# Altium footprint library WS-TASV.PcbLib: 101 footprints (part 3 of 7)
Each footprint in its own frame and in the unit in brackets; x right, y up, seen from the top. Pads: shape width x height; smd on the part's side, far side on the other; paste and mask are expansions set on the pad; w line width, h text height; cw(c..) or ccw(c..) is an arc to the next point about the centre after c.
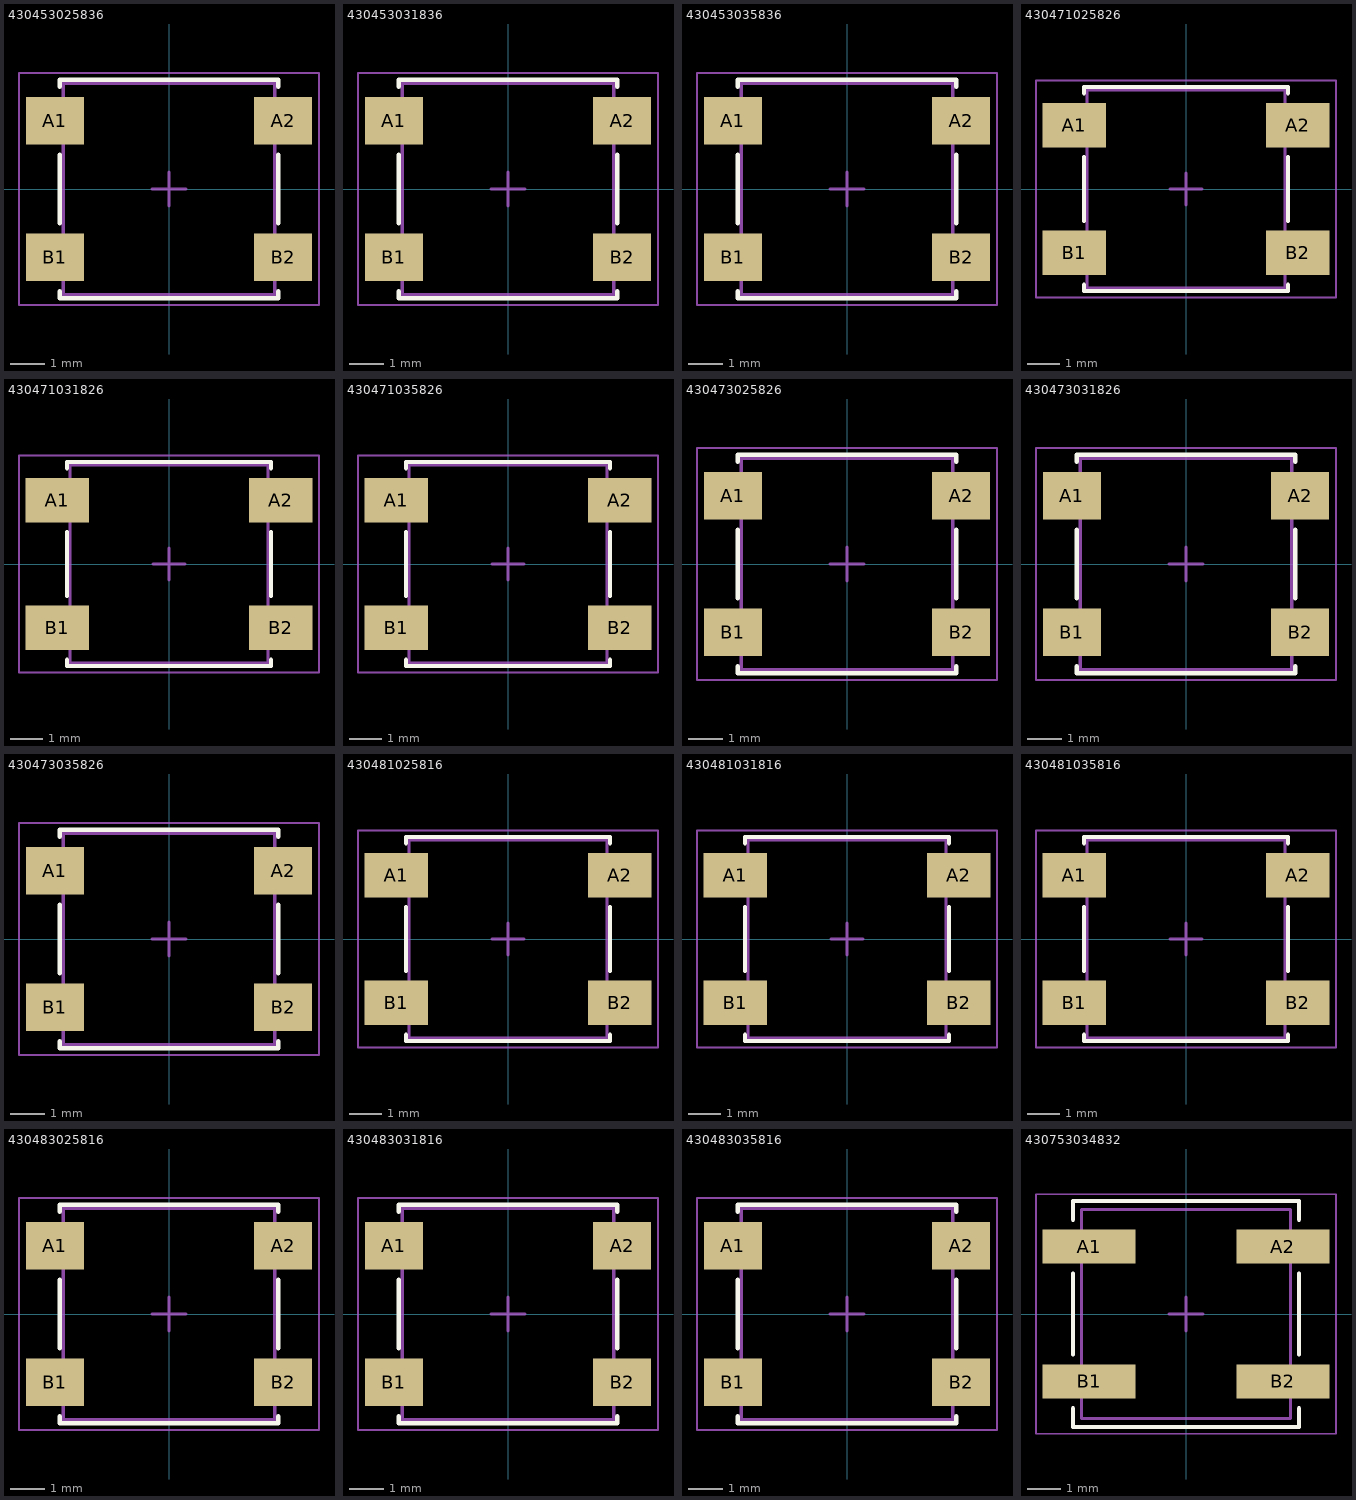
[diagram p2: the footprints below, top view; thin cyan lines are the x and y axes]

## 430453025836 [mm] "SMD Tact Switch, body 6x6mm"
height 2.5
pads (4):
  rect 1.7x1.4 smd: A1(-3.35,2) A2(3.35,2) B1(-3.35,-2) B2(3.35,-2)
Top Overlay:
  lines w0.127: -3.2,-3 -3.2,-3.2 3.2,-3.2 3.2,-3 ; -3.2,-1 -3.2,1 ; -3.2,3 -3.2,3.2 3.2,3.2 3.2,3 ; 3.2,-1 3.2,1
Top Assembly:
  lines w0.1: -3.1,-3.1 -3.1,3.1 3.1,3.1 3.1,-3.1 -3.1,-3.1
Top Designator:
  text ".Designator" at -3.647,-0.357 h1
Top Courtyard:
  lines w0.05: -4.4,-3.4 -4.4,3.4 4.4,3.4 4.4,-3.4 -4.4,-3.4
Top Component Center:
  lines w0.1: -0.5,0 0.5,0 ; 0,-0.5 0,0.5
3D body "430483025816.stp": height 2.5, standoff 0, extent -3.6,-3.1 3.6,3.1

## 430453031836 [mm] "SMD Tact Switch, body 6x6mm"
height 3.1
pads (4):
  rect 1.7x1.4 smd: A1(-3.35,2) A2(3.35,2) B1(-3.35,-2) B2(3.35,-2)
Top Overlay:
  lines w0.127: -3.2,-3 -3.2,-3.2 3.2,-3.2 3.2,-3 ; -3.2,-1 -3.2,1 ; -3.2,3 -3.2,3.2 3.2,3.2 3.2,3 ; 3.2,-1 3.2,1
Top Assembly:
  lines w0.1: -3.1,-3.1 3.1,-3.1 3.1,3.1 -3.1,3.1 -3.1,-3.1
Top Designator:
  text ".Designator" at -3.647,-0.357 h1
Top Courtyard:
  lines w0.05: -4.4,-3.4 -4.4,3.4 4.4,3.4 4.4,-3.4 -4.4,-3.4
Top Component Center:
  lines w0.1: -0.5,0 0.5,0 ; 0,-0.5 0,0.5
3D body "430483031816.stp": height 3.1, standoff 0, extent -3.6,-3.1 3.6,3.1

## 430453035836 [mm] "SMD Tact Switch, body 6x6mm"
height 3.5
pads (4):
  rect 1.7x1.4 smd: A1(-3.35,2) A2(3.35,2) B1(-3.35,-2) B2(3.35,-2)
Top Overlay:
  lines w0.127: -3.2,-3 -3.2,-3.2 3.2,-3.2 3.2,-3 ; -3.2,-1 -3.2,1 ; -3.2,3 -3.2,3.2 3.2,3.2 3.2,3 ; 3.2,-1 3.2,1
Top Assembly:
  lines w0.1: -3.1,-3.1 -3.1,3.1 3.1,3.1 3.1,-3.1 -3.1,-3.1
Top Designator:
  text ".Designator" at -3.647,-0.357 h1
Top Courtyard:
  lines w0.05: -4.4,-3.4 -4.4,3.4 4.4,3.4 4.4,-3.4 -4.4,-3.4
Top Component Center:
  lines w0.1: -0.5,0 0.5,0 ; 0,-0.5 0,0.5
3D body "430483035816.stp": height 3.5, standoff 0, extent -3.6,-3.1 3.6,3.1

## 430471025826 [mm] "SMD Tact Switch, body 6x6mm"
height 2.5
pads (4):
  rect 2x1.4 smd: A1(-3.5,2) A2(3.5,2) B1(-3.5,-2) B2(3.5,-2)
Top Overlay:
  lines w0.127: -3.2,-3 -3.2,-3.2 3.2,-3.2 3.2,-3 ; -3.2,-1 -3.2,1 ; -3.2,3 -3.2,3.2 3.2,3.2 3.2,3 ; 3.2,-1 3.2,1
Top Assembly:
  lines w0.1: -3.1,-2.35 -4,-2.35 -4,-1.65 -3.1,-1.65 ; -3.1,1.65 -4,1.65 -4,2.35 -3.1,2.35 ; 3.1,-2.35 4,-2.35 4,-1.65 3.1,-1.65 ; 3.1,1.65 4,1.65 4,2.35 3.1,2.35 ; -3.1,-3.1 -3.1,3.1 3.1,3.1 3.1,-3.1 -3.1,-3.1
Top Designator:
  text ".Designator" at -3.647,-0.357 h1
Top Courtyard:
  lines w0.05: -4.7,-3.4 -4.7,3.4 4.7,3.4 4.7,-3.4 -4.7,-3.4
Top Component Center:
  lines w0.1: -0.5,0 0.5,0 ; 0,-0.5 0,0.5
3D body "430481025816.stp": height 2.5, standoff 0, extent -4,-3.1 4,3.1

## 430471031826 [mm] "SMD Tact Switch, body 6x6mm"
height 3.1
pads (4):
  rect 2x1.4 smd: A1(-3.5,2) A2(3.5,2) B1(-3.5,-2) B2(3.5,-2)
Top Overlay:
  lines w0.127: -3.2,-3 -3.2,-3.2 3.2,-3.2 3.2,-3 ; -3.2,-1 -3.2,1 ; -3.2,3 -3.2,3.2 3.2,3.2 3.2,3 ; 3.2,-1 3.2,1
Top Assembly:
  lines w0.1: -3.1,-2.35 -4,-2.35 -4,-1.65 -3.1,-1.65 ; -3.1,1.65 -4,1.65 -4,2.35 -3.1,2.35 ; 3.1,-2.35 4,-2.35 4,-1.65 3.1,-1.65 ; 3.1,1.65 4,1.65 4,2.35 3.1,2.35 ; -3.1,-3.1 -3.1,3.1 3.1,3.1 3.1,-3.1 -3.1,-3.1
Top Designator:
  text ".Designator" at -3.647,-0.357 h1
Top Courtyard:
  lines w0.05: -4.7,-3.4 4.7,-3.4 4.7,3.4 -4.7,3.4 -4.7,-3.4
Top Component Center:
  lines w0.1: -0.5,0 0.5,0 ; 0,-0.5 0,0.5
3D body "430481031816.stp": height 3.1, standoff 0, extent -4,-3.1 4,3.1

## 430471035826 [mm] "SMD Tact Switch, body 6x6mm"
height 3.5
pads (4):
  rect 2x1.4 smd: A1(-3.5,2) A2(3.5,2) B1(-3.5,-2) B2(3.5,-2)
Top Overlay:
  lines w0.127: -3.2,-3 -3.2,-3.2 3.2,-3.2 3.2,-3 ; -3.2,-1 -3.2,1 ; -3.2,3 -3.2,3.2 3.2,3.2 3.2,3 ; 3.2,-1 3.2,1
Top Assembly:
  lines w0.1: -3.1,-2.35 -4,-2.35 -4,-1.65 -3.1,-1.65 ; -3.1,1.65 -4,1.65 -4,2.35 -3.1,2.35 ; 3.1,-2.35 4,-2.35 4,-1.65 3.1,-1.65 ; 3.1,1.65 4,1.65 4,2.35 3.1,2.35 ; -3.1,-3.1 -3.1,3.1 3.1,3.1 3.1,-3.1 -3.1,-3.1
Top Designator:
  text ".Designator" at -3.647,-0.357 h1
Top Courtyard:
  lines w0.05: -4.7,-3.4 -4.7,3.4 4.7,3.4 4.7,-3.4 -4.7,-3.4
Top Component Center:
  lines w0.1: -0.5,0 0.5,0 ; 0,-0.5 0,0.5
3D body "430481035816.stp": height 3.5, standoff 0, extent -4,-3.1 4,3.1

## 430473025826 [mm] "SMD Tact Switch, body 6x6mm"
height 2.5
pads (4):
  rect 1.7x1.4 smd: A1(-3.35,2) A2(3.35,2) B1(-3.35,-2) B2(3.35,-2)
Top Overlay:
  lines w0.127: -3.2,-3 -3.2,-3.2 3.2,-3.2 3.2,-3 ; -3.2,-1 -3.2,1 ; -3.2,3 -3.2,3.2 3.2,3.2 3.2,3 ; 3.2,-1 3.2,1
Top Assembly:
  lines w0.1: -3.1,-3.1 3.1,-3.1 3.1,3.1 -3.1,3.1 -3.1,-3.1
Top Designator:
  text ".Designator" at -3.647,-0.357 h1
Top Courtyard:
  lines w0.05: -4.4,-3.4 4.4,-3.4 4.4,3.4 -4.4,3.4 -4.4,-3.4
Top Component Center:
  lines w0.1: -0.5,0 0.5,0 ; 0,-0.5 0,0.5
3D body "430483025816.stp": height 2.5, standoff 0, extent -3.6,-3.1 3.6,3.1

## 430473031826 [mm] "SMD Tact Switch, body 6x6mm"
height 3.1
pads (4):
  rect 1.7x1.4 smd: A1(-3.35,2) A2(3.35,2) B1(-3.35,-2) B2(3.35,-2)
Top Overlay:
  lines w0.127: -3.2,-3 -3.2,-3.2 3.2,-3.2 3.2,-3 ; -3.2,-1 -3.2,1 ; -3.2,3 -3.2,3.2 3.2,3.2 3.2,3 ; 3.2,-1 3.2,1
Top Assembly:
  lines w0.1: -3.1,-3.1 3.1,-3.1 3.1,3.1 -3.1,3.1 -3.1,-3.1
Top Designator:
  text ".Designator" at -3.647,-0.357 h1
Top Courtyard:
  lines w0.05: -4.4,-3.4 -4.4,3.4 4.4,3.4 4.4,-3.4 -4.4,-3.4
Top Component Center:
  lines w0.1: -0.5,0 0.5,0 ; 0,-0.5 0,0.5
3D body "430483031816.stp": height 3.1, standoff 0, extent -3.6,-3.1 3.6,3.1

## 430473035826 [mm] "SMD Tact Switch, body 6x6mm"
height 3.5
pads (4):
  rect 1.7x1.4 smd: A1(-3.35,2) A2(3.35,2) B1(-3.35,-2) B2(3.35,-2)
Top Overlay:
  lines w0.127: -3.2,-3 -3.2,-3.2 3.2,-3.2 3.2,-3 ; -3.2,-1 -3.2,1 ; -3.2,3 -3.2,3.2 3.2,3.2 3.2,3 ; 3.2,-1 3.2,1
Top Assembly:
  lines w0.1: -3.1,-3.1 -3.1,3.1 3.1,3.1 3.1,-3.1 -3.1,-3.1
Top Designator:
  text ".Designator" at -3.647,-0.357 h1
Top Courtyard:
  lines w0.05: -4.4,-3.4 -4.4,3.4 4.4,3.4 4.4,-3.4 -4.4,-3.4
Top Component Center:
  lines w0.1: -0.5,0 0.5,0 ; 0,-0.5 0,0.5
3D body "430483035816.stp": height 3.5, standoff 0, extent -3.6,-3.1 3.6,3.1

## 430481025816 [mm] "SMD Tact Switch, body 6x6mm"
height 2.5
pads (4):
  rect 2x1.4 smd: A1(-3.5,2) A2(3.5,2) B1(-3.5,-2) B2(3.5,-2)
Top Overlay:
  lines w0.127: -3.2,-3 -3.2,-3.2 3.2,-3.2 3.2,-3 ; -3.2,-1 -3.2,1 ; -3.2,3 -3.2,3.2 3.2,3.2 3.2,3 ; 3.2,-1 3.2,1
Top Assembly:
  lines w0.1: -3.1,-2.35 -4,-2.35 -4,-1.65 -3.1,-1.65 ; -3.1,1.65 -4,1.65 -4,2.35 -3.1,2.35 ; 3.1,-2.35 4,-2.35 4,-1.65 3.1,-1.65 ; 3.1,1.65 4,1.65 4,2.35 3.1,2.35 ; -3.1,-3.1 3.1,-3.1 3.1,3.1 -3.1,3.1 -3.1,-3.1
Top Designator:
  text ".Designator" at -3.647,-0.357 h1
Top Courtyard:
  lines w0.05: -4.7,-3.4 4.7,-3.4 4.7,3.4 -4.7,3.4 -4.7,-3.4
Top Component Center:
  lines w0.1: -0.5,0 0.5,0 ; 0,-0.5 0,0.5
3D body "430481025816.stp": height 2.5, standoff 0, extent -4,-3.1 4,3.1

## 430481031816 [mm] "SMD Tact Switch, body 6x6mm"
height 3.1
pads (4):
  rect 2x1.4 smd: A1(-3.5,2) A2(3.5,2) B1(-3.5,-2) B2(3.5,-2)
Top Overlay:
  lines w0.127: -3.2,-3 -3.2,-3.2 3.2,-3.2 3.2,-3 ; -3.2,-1 -3.2,1 ; -3.2,3 -3.2,3.2 3.2,3.2 3.2,3 ; 3.2,-1 3.2,1
Top Assembly:
  lines w0.1: -3.1,-2.35 -4,-2.35 -4,-1.65 -3.1,-1.65 ; -3.1,1.65 -4,1.65 -4,2.35 -3.1,2.35 ; 3.1,-2.35 4,-2.35 4,-1.65 3.1,-1.65 ; 3.1,1.65 4,1.65 4,2.35 3.1,2.35 ; -3.1,-3.1 -3.1,3.1 3.1,3.1 3.1,-3.1 -3.1,-3.1
Top Designator:
  text ".Designator" at -3.647,-0.357 h1
Top Courtyard:
  lines w0.05: -4.7,-3.4 4.7,-3.4 4.7,3.4 -4.7,3.4 -4.7,-3.4
Top Component Center:
  lines w0.1: -0.5,0 0.5,0 ; 0,-0.5 0,0.5
3D body "430481031816.stp": height 3.1, standoff 0, extent -4,-3.1 4,3.1

## 430481035816 [mm] "SMD Tact Switch, body 6x6mm"
height 3.5
pads (4):
  rect 2x1.4 smd: A1(-3.5,2) A2(3.5,2) B1(-3.5,-2) B2(3.5,-2)
Top Overlay:
  lines w0.127: -3.2,-3 -3.2,-3.2 3.2,-3.2 3.2,-3 ; -3.2,-1 -3.2,1 ; -3.2,3 -3.2,3.2 3.2,3.2 3.2,3 ; 3.2,-1 3.2,1
Top Assembly:
  lines w0.1: -3.1,-2.35 -4,-2.35 -4,-1.65 -3.1,-1.65 ; -3.1,1.65 -4,1.65 -4,2.35 -3.1,2.35 ; 3.1,-2.35 4,-2.35 4,-1.65 3.1,-1.65 ; 3.1,1.65 4,1.65 4,2.35 3.1,2.35 ; -3.1,-3.1 3.1,-3.1 3.1,3.1 -3.1,3.1 -3.1,-3.1
Top Designator:
  text ".Designator" at -3.647,-0.357 h1
Top Courtyard:
  lines w0.05: -4.7,-3.4 4.7,-3.4 4.7,3.4 -4.7,3.4 -4.7,-3.4
Top Component Center:
  lines w0.1: -0.5,0 0.5,0 ; 0,-0.5 0,0.5
3D body "430481035816.stp": height 3.5, standoff 0, extent -4,-3.1 4,3.1

## 430483025816 [mm] "SMD Tact Switch, body 6x6mm"
height 2.5
pads (4):
  rect 1.7x1.4 smd: A1(-3.35,2) A2(3.35,2) B1(-3.35,-2) B2(3.35,-2)
Top Overlay:
  lines w0.127: -3.2,-3 -3.2,-3.2 3.2,-3.2 3.2,-3 ; -3.2,-1 -3.2,1 ; -3.2,3 -3.2,3.2 3.2,3.2 3.2,3 ; 3.2,-1 3.2,1
Top Assembly:
  lines w0.1: -3.1,-3.1 3.1,-3.1 3.1,3.1 -3.1,3.1 -3.1,-3.1
Top Designator:
  text ".Designator" at -3.647,-0.357 h1
Top Courtyard:
  lines w0.05: -4.4,-3.4 4.4,-3.4 4.4,3.4 -4.4,3.4 -4.4,-3.4
Top Component Center:
  lines w0.1: -0.5,0 0.5,0 ; 0,-0.5 0,0.5
3D body "430483025816.stp": height 2.5, standoff 0, extent -3.6,-3.1 3.6,3.1

## 430483031816 [mm] "SMD Tact Switch, body 6x6mm"
height 3.1
pads (4):
  rect 1.7x1.4 smd: A1(-3.35,2) A2(3.35,2) B1(-3.35,-2) B2(3.35,-2)
Top Overlay:
  lines w0.127: -3.2,-3 -3.2,-3.2 3.2,-3.2 3.2,-3 ; -3.2,-1 -3.2,1 ; -3.2,3 -3.2,3.2 3.2,3.2 3.2,3 ; 3.2,-1 3.2,1
Top Assembly:
  lines w0.1: -3.1,-3.1 -3.1,3.1 3.1,3.1 3.1,-3.1 -3.1,-3.1
Top Designator:
  text ".Designator" at -3.647,-0.357 h1
Top Courtyard:
  lines w0.05: -4.4,-3.4 4.4,-3.4 4.4,3.4 -4.4,3.4 -4.4,-3.4
Top Component Center:
  lines w0.1: -0.5,0 0.5,0 ; 0,-0.5 0,0.5
3D body "430483031816.stp": height 3.1, standoff 0, extent -3.6,-3.1 3.6,3.1

## 430483035816 [mm] "SMD Tact Switch, body 6x6mm"
height 3.5
pads (4):
  rect 1.7x1.4 smd: A1(-3.35,2) A2(3.35,2) B1(-3.35,-2) B2(3.35,-2)
Top Overlay:
  lines w0.127: -3.2,-3 -3.2,-3.2 3.2,-3.2 3.2,-3 ; -3.2,-1 -3.2,1 ; -3.2,3 -3.2,3.2 3.2,3.2 3.2,3 ; 3.2,-1 3.2,1
Top Assembly:
  lines w0.1: -3.1,-3.1 -3.1,3.1 3.1,3.1 3.1,-3.1 -3.1,-3.1
Top Designator:
  text ".Designator" at -3.647,-0.357 h1
Top Courtyard:
  lines w0.05: -4.4,-3.4 -4.4,3.4 4.4,3.4 4.4,-3.4 -4.4,-3.4
Top Component Center:
  lines w0.1: -0.5,0 0.5,0 ; 0,-0.5 0,0.5
3D body "430483035816.stp": height 3.5, standoff 0, extent -3.6,-3.1 3.6,3.1

## 430753034832 [mm] "SMD Tact Switch, body 6.2 x 6.2 mm"
height 3.4
pads (4):
  rect 2.75x1 smd: A1(-2.875,2) A2(2.875,2) B1(-2.875,-2) B2(2.875,-2)
Top Overlay:
  lines w0.127: -3.35,-2.8 -3.35,-3.35 3.35,-3.35 3.35,-2.8 ; -3.35,-1.2 -3.35,1.2 ; -3.35,2.8 -3.35,3.35 3.35,3.35 3.35,2.8 ; 3.35,-1.2 3.35,1.2
Top Assembly:
  lines w0.1: -3.1,-3.1 -3.1,3.1 3.1,3.1 3.1,-3.1 -3.1,-3.1
Top Designator:
  text ".Designator" at -3.647,-0.357 h1
Top Courtyard:
  lines w0.05: -4.45,-3.55 4.45,-3.55 4.45,3.55 -4.45,3.55 -4.45,-3.55
Top Component Center:
  lines w0.1: -0.5,0 0.5,0 ; 0,-0.5 0,0.5
3D body "4307x30xx8xx_3_4.stp": height 3.4, standoff 0, extent -3.4,-3.1 3.4,3.1